# Altium schematic symbol library Switches.SchLib: 1 symbol
Pins are listed as number, name and electrical type; pins without a type are passive.

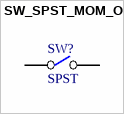
[diagram p0: symbol SW_SPST_MOM_ON]

## SW_SPST_MOM_ON
designator SW?, comment SPST
Tactile switch, Mom-on, SPST
footprint TE_FSM2JSMA (Footprint for TE Micro miniarture pushbutton switch)
pins: 1, 2